# Altium footprint library PcbLib.PcbLib: 2 footprints
Each footprint in its own frame and in the unit in brackets; x right, y up, seen from the top. Pads: shape width x height; smd on the part's side, far side on the other; paste and mask are expansions set on the pad; w line width, h text height; cw(c..) or ccw(c..) is an arc to the next point about the centre after c.
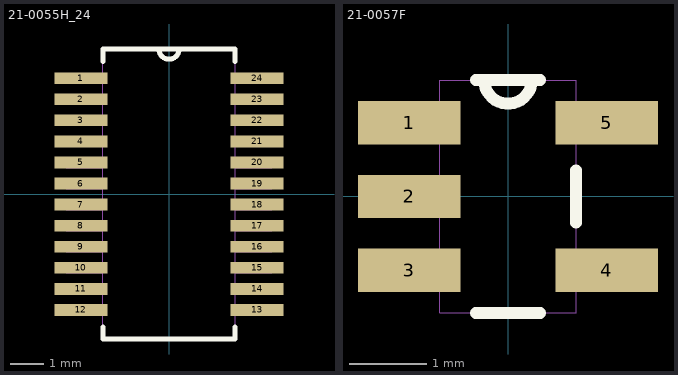
[diagram p0: the footprints below, top view; thin cyan lines are the x and y axes]

## 21-0055H_24 [mil]
pads (24):
  rect 63x14 smd: 1(-104.5,137.5) 2(-104.5,112.5) 3(-104.5,87.5) 4(-104.5,62.5) 5(-104.5,37.5) 6(-104.5,12.5) 7(-104.5,-12.5) 8(-104.5,-37.5) 9(-104.5,-62.5) 10(-104.5,-87.5) 11(-104.5,-112.5) 12(-104.5,-137.5) 13(104.5,-137.5) 14(104.5,-112.5) 15(104.5,-87.5) 16(104.5,-62.5) 17(104.5,-37.5) 18(104.5,-12.5) 19(104.5,12.5) 20(104.5,37.5) 21(104.5,62.5) 22(104.5,87.5) 23(104.5,112.5) 24(104.5,137.5)
Top Overlay:
  lines w6: -78.5,-157.6 -78.5,-172 78.5,-172 78.5,-157.6 ; -78.5,157.6 -78.5,172 78.5,172 78.5,157.6 ; -12,172 ccw(c0,172) 12,172
Mechanical 1:
  lines w0: -12,172 ccw(c0,172) 12,172 ; -122,-143.5 -122,-131.5 -78.5,-131.5 -78.5,-143.5 -122,-143.5 ; -122,-118.5 -122,-106.5 -78.5,-106.5 -78.5,-118.5 -122,-118.5 ; -122,-93.5 -122,-81.5 -78.5,-81.5 -78.5,-93.5 -122,-93.5 ; -122,-68.5 -122,-56.5 -78.5,-56.5 -78.5,-68.5 -122,-68.5 ; -122,-43.5 -122,-31.5 -78.5,-31.5 -78.5,-43.5 -122,-43.5 ; -122,-18.5 -122,-6.5 -78.5,-6.5 -78.5,-18.5 -122,-18.5 ; -122,6.5 -122,18.5 -78.5,18.5 -78.5,6.5 -122,6.5 ; -122,31.5 -122,43.5 -78.5,43.5 -78.5,31.5 -122,31.5 ; -122,56.5 -122,68.5 -78.5,68.5 -78.5,56.5 -122,56.5 ; -122,81.5 -122,93.5 -78.5,93.5 -78.5,81.5 -122,81.5 ; -122,106.5 -122,118.5 -78.5,118.5 -78.5,106.5 -122,106.5 ; -122,131.5 -122,143.5 -78.5,143.5 -78.5,131.5 -122,131.5 ; -78.5,-172 78.5,-172 78.5,172 -78.5,172 -78.5,-172 ; 78.5,-143.5 78.5,-131.5 122,-131.5 122,-143.5 78.5,-143.5 ; 78.5,-118.5 78.5,-106.5 122,-106.5 122,-118.5 78.5,-118.5 ; 78.5,-93.5 78.5,-81.5 122,-81.5 122,-93.5 78.5,-93.5 ; 78.5,-68.5 78.5,-56.5 122,-56.5 122,-68.5 78.5,-68.5 ; 78.5,-43.5 78.5,-31.5 122,-31.5 122,-43.5 78.5,-43.5 ; 78.5,-18.5 78.5,-6.5 122,-6.5 122,-18.5 78.5,-18.5 ; 78.5,6.5 78.5,18.5 122,18.5 122,6.5 78.5,6.5 ; 78.5,31.5 78.5,43.5 122,43.5 122,31.5 78.5,31.5 ; 78.5,56.5 78.5,68.5 122,68.5 122,56.5 78.5,56.5 ; 78.5,81.5 78.5,93.5 122,93.5 122,81.5 78.5,81.5 ; 78.5,106.5 78.5,118.5 122,118.5 122,106.5 78.5,106.5 ; 78.5,131.5 78.5,143.5 122,143.5 122,131.5 78.5,131.5

## 21-0057F [mil]
pads (5):
  rect 52x22 smd: 1(-50,37.4) 2(-50,0) 3(-50,-37.4) 4(50,-37.4) 5(50,37.4)
Top Overlay:
  lines w6: -16.3,-59 16.3,-59 ; -16.3,59 16.3,59 ; -12,59 ccw(c0,59) 12,59 ; 34.5,-13.3 34.5,13.3
Mechanical 1:
  lines w0: -12,59 ccw(c0,59) 12,59 ; -59,-47.4 -59,-27.4 -34.5,-27.4 -34.5,-47.4 -59,-47.4 ; -59,-10 -59,10 -34.5,10 -34.5,-10 -59,-10 ; -59,27.4 -59,47.4 -34.5,47.4 -34.5,27.4 -59,27.4 ; -34.5,-59 34.5,-59 34.5,59 -34.5,59 -34.5,-59 ; 34.5,-47.4 34.5,-27.4 59,-27.4 59,-47.4 34.5,-47.4 ; 34.5,27.4 34.5,47.4 59,47.4 59,27.4 34.5,27.4
3D body: height 57.09, standoff 0, extent -55.11,-57.09 55.12,57.09